# EAGLE library part DIL16/8B (library ic-package)
Dual In Line 8 pins used
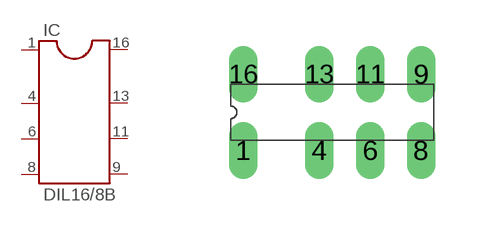
[diagram p7: symbol with the pads of DIL16/8B; footprint DIL16/8B]

Designator prefix IC

## DIL16/8B  [DIL16/8B]
1  1  pas
4  4  pas
6  6  pas
8  8  pas
9  9  pas
11  11  pas
13  13  pas
16  16  pas

## Footprint DIL16/8B (pad centres in mm)
Dual In Line Package 8 pins used
drill 0.203 long: 1 -2.223,-0.953; 4 -0.318,-0.953; 6 0.953,-0.953; 8 2.223,-0.953; 9 2.223,0.953; 11 0.953,0.953; 13 -0.318,0.953; 16 -2.223,0.953